# Altium footprint library SMD QFN.PcbLib: 9 footprints
Each footprint in its own frame and in the unit in brackets; x right, y up, seen from the top. Pads: shape width x height; smd on the part's side, far side on the other; paste and mask are expansions set on the pad; w line width, h text height; cw(c..) or ccw(c..) is an arc to the next point about the centre after c.
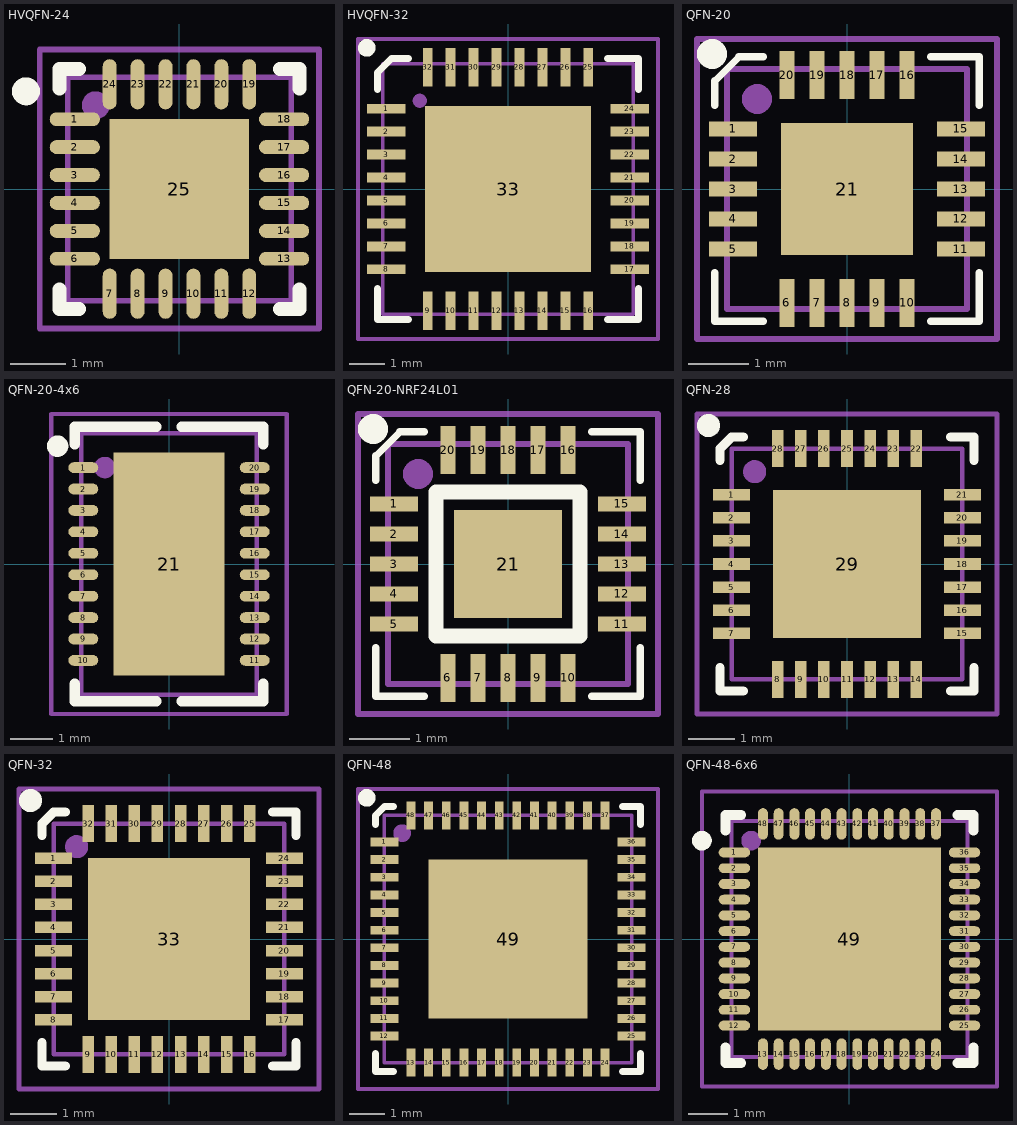
[diagram p0: the footprints below, top view; thin cyan lines are the x and y axes]

## HVQFN-24 [mm] "HVQFN, 24-Leads, Body 4,00x4,00mm, Pitch 0,50mm, Thermal Pad 2,50x2,50mm, IPC Medium Density"
height 1
pads (25):
  oval 0.9x0.25 smd: 1(-1.875,1.25) 2(-1.875,0.75) 3(-1.875,0.25) 4(-1.875,-0.25) 5(-1.875,-0.75) 6(-1.875,-1.25) 13(1.875,-1.25) 14(1.875,-0.75) 15(1.875,-0.25) 16(1.875,0.25) 17(1.875,0.75) 18(1.875,1.25)
  oval 0.25x0.9 smd: 7(-1.25,-1.875) 8(-0.75,-1.875) 9(-0.25,-1.875) 10(0.25,-1.875) 11(0.75,-1.875) 12(1.25,-1.875) 19(1.25,1.875) 20(0.75,1.875) 21(0.25,1.875) 22(-0.25,1.875) 23(-0.75,1.875) 24(-1.25,1.875)
  rect 2.5x2.5 smd: 25(0,0)
Top Overlay:
  circle w0.25: c-2.75,1.75 r0.125
  lines w0.25: -2.15,-1.8 -2.15,-2.15 -1.8,-2.15 ; -2.15,1.8 -2.15,2.15 -1.8,2.15 ; 1.8,-2.15 2.15,-2.15 2.15,-1.8 ; 1.8,2.15 2.15,2.15 2.15,1.8
Mechanical 13:
  circle w0.25: c-1.5,1.5 r0.125
  lines w0.1: -2,-2 2,-2 2,2 -2,2 -2,-2
Mechanical 15:
  lines w0.1: -0.5,0 0.5,0 ; 0,-0.5 0,0.5 ; -2.5,-2.5 2.5,-2.5 2.5,2.5 -2.5,2.5 -2.5,-2.5
3D body "HVQFN-24.step": height 1, standoff 0, extent -2.05,-2.05 2.05,2.05

## HVQFN-32 [mm] "Plastic Thermal Enhanced Very Thin Quad Flat Package; No Leads; 32 Terminals; Body 7 x 7 x 0.85 mm"
height 0.85
pads (33):
  rect 1.1x0.28 smd: 1(-3.45,2.275) 2(-3.45,1.625) 3(-3.45,0.975) 4(-3.45,0.325) 5(-3.45,-0.325) 6(-3.45,-0.975) 7(-3.45,-1.625) 8(-3.45,-2.275) 17(3.45,-2.275) 18(3.45,-1.625) 19(3.45,-0.975) 20(3.45,-0.325) 21(3.45,0.325) 22(3.45,0.975) 23(3.45,1.625) 24(3.45,2.275)
  rect 0.28x1.1 smd: 9(-2.275,-3.45) 10(-1.625,-3.45) 11(-0.975,-3.45) 12(-0.325,-3.45) 13(0.325,-3.45) 14(0.975,-3.45) 15(1.625,-3.45) 16(2.275,-3.45) 25(2.275,3.45) 26(1.625,3.45) 27(0.975,3.45) 28(0.325,3.45) 29(-0.325,3.45) 30(-0.975,3.45) 31(-1.625,3.45) 32(-2.275,3.45)
  rect 4.7x4.7 smd paste-2.35: 33(0,0)
Top Overlay:
  circle w0.25: c-4,4 r0.125
  lines w0.2: -3.7,-2.815 -3.7,-3.7 -2.815,-3.7 ; -3.7,2.815 -3.7,3.3 -3.3,3.7 -2.815,3.7 ; 2.815,-3.7 3.7,-3.7 3.7,-2.815 ; 2.815,3.7 3.7,3.7 3.7,2.815
Top Paste:
  rectangle: 0.65,-1.35 1.35,-0.65
  rectangle: -1.35,-1.35 -0.65,-0.65
  rectangle: -0.35,-1.35 0.35,-0.65
  rectangle: 0.65,-0.35 1.35,0.35
  rectangle: 0.65,0.65 1.35,1.35
  region: -0.65,1.35 -1.35,1.35 -1.35,0.65 -0.65,0.65
  rectangle: -0.35,0.65 0.35,1.35
  rectangle: -0.35,-0.35 0.35,0.35
  region: -0.65,0.35 -1.35,0.35 -1.35,-0.35 -0.65,-0.35
Mechanical 7:
  lines w0.05: -4.25,-4.25 4.25,-4.25 4.25,4.25 -4.25,4.25 -4.25,-4.25
  text ".Designator" at -2.5,-0.25 h1.5
Mechanical 13:
  circle w0.2: c-2.5,2.5 r0.1
  lines w0.1: -3.55,-3.55 3.55,-3.55 3.55,3.55 -3.55,3.55 -3.55,-3.55
Mechanical 15:
  lines w0.1: -0.5,0 0.5,0 ; 0,-0.5 0,0.5 ; -4.25,-4.25 4.25,-4.25 4.25,4.25 -4.25,4.25 -4.25,-4.25
3D body: height 1, standoff 0, extent -3.55,-3.55 3.55,3.55

## QFN-20 [mm]
pads (21):
  rect 0.8x0.25 smd: 1(-1.9,1) 2(-1.9,0.5) 3(-1.9,0) 4(-1.9,-0.5) 5(-1.9,-1) 11(1.9,-1) 12(1.9,-0.5) 13(1.9,0) 14(1.9,0.5) 15(1.9,1)
  rect 0.25x0.8 smd: 6(-1,-1.9) 7(-0.5,-1.9) 8(0,-1.9) 9(0.5,-1.9) 10(1,-1.9) 16(1,1.9) 17(0.5,1.9) 18(0,1.9) 19(-0.5,1.9) 20(-1,1.9)
  rect 2.2x2.2 smd: 21(0,0)
Top Overlay:
  circle w0.25: c-2.25,2.25 r0.125
  lines w0.125: -2.2,-1.4 -2.2,-2.2 -1.4,-2.2 ; -2.2,1.4 -2.2,1.8 -1.8,2.2 -1.4,2.2 ; 1.4,-2.2 2.2,-2.2 2.2,-1.4 ; 1.4,2.2 2.2,2.2 2.2,1.4
Mechanical 7:
  lines w0.05: -2.5,-2.5 -2.5,2.5 2.5,2.5 2.5,-2.5 -2.5,-2.5
  text ".Designator" at -1.75,-0.25 h1.2
Mechanical 13:
  circle w0.25: c-1.5,1.5 r0.125
  lines w0.1: -2,-2 -2,2 2,2 2,-2 -2,-2
Mechanical 15:
  lines w0.1: -0.5,0 0.5,0 ; 0,-0.5 0,0.5 ; -2.5,-2.5 -2.5,2.5 2.5,2.5 2.5,-2.5 -2.5,-2.5
3D body "User Library-QFN20_4x4x0_8.step": height 0.78, standoff -0.02, extent -2.01,-2.01 2.01,2.01

## QFN-20-4x6 [mm] "QFN, 20-Leads, Body 4,00x6,00mm, Pitch 0,50mm, Thermal Pad 2,60x5,20mm, IPC Medium Density"
height 1
pads (21):
  oval 0.7x0.25 smd: 1(-2,2.25) 2(-2,1.75) 3(-2,1.25) 4(-2,0.75) 5(-2,0.25) 6(-2,-0.25) 7(-2,-0.75) 8(-2,-1.25) 9(-2,-1.75) 10(-2,-2.25) 11(2,-2.25) 12(2,-1.75) 13(2,-1.25) 14(2,-0.75) 15(2,-0.25) 16(2,0.25) 17(2,0.75) 18(2,1.25) 19(2,1.75) 20(2,2.25)
  rect 2.6x5.2 smd: 21(0,0)
Top Overlay:
  circle w0.25: c-2.6,2.75 r0.125
  lines w0.25: -2.2,-2.8 -2.2,-3.2 -0.3,-3.2 ; -2.2,2.8 -2.2,3.2 -0.3,3.2 ; 0.3,-3.2 2.2,-3.2 2.2,-2.8 ; 0.3,3.2 2.2,3.2 2.2,2.8
Mechanical 7:
  lines w0.05: -2.75,-3.5 2.75,-3.5 2.75,3.5 -2.75,3.5 -2.75,-3.5
  text ".Designator" at -1.75,-0.25 h1.2
Mechanical 13:
  circle w0.25: c-1.5,2.25 r0.125
  lines w0.1: -2.05,-3.05 2.05,-3.05 2.05,3.05 -2.05,3.05 -2.05,-3.05
Mechanical 15:
  lines w0.1: -0.5,0 0.5,0 ; 0,-0.5 0,0.5 ; -2.75,-3.5 2.75,-3.5 2.75,3.5 -2.75,3.5 -2.75,-3.5
3D body "QFN-20-4x6.step": height 1, standoff 0, extent -2.1,-3.05 2.1,3.05

## QFN-20-NRF24L01 [mm] "nrf24L01 \ nrf24L01+"
height 1
pads (21):
  rect 0.8x0.25 smd: 1(-1.9,1) 2(-1.9,0.5) 3(-1.9,0) 4(-1.9,-0.5) 5(-1.9,-1) 11(1.9,-1) 12(1.9,-0.5) 13(1.9,0) 14(1.9,0.5) 15(1.9,1)
  rect 0.25x0.8 smd: 6(-1,-1.9) 7(-0.5,-1.9) 8(0,-1.9) 9(0.5,-1.9) 10(1,-1.9) 16(1,1.9) 17(0.5,1.9) 18(0,1.9) 19(-0.5,1.9) 20(-1,1.9)
  rect 1.8x1.8 smd: 21(0,0)
Top Overlay:
  circle w0.25: c-2.25,2.25 r0.125
  lines w0.125: -2.2,-1.4 -2.2,-2.2 -1.4,-2.2 ; -2.2,1.4 -2.2,1.8 -1.8,2.2 -1.4,2.2 ; 1.4,-2.2 2.2,-2.2 2.2,-1.4 ; 1.4,2.2 2.2,2.2 2.2,1.4
  lines w0.25: -1.2,-1.2 -1.2,1.2 1.2,1.2 1.2,-1.2 -1.2,-1.2
Mechanical 7:
  lines w0.05: -2.5,-2.5 -2.5,2.5 2.5,2.5 2.5,-2.5 -2.5,-2.5
  text ".Designator" at -1.75,-0.25 h1.2
Mechanical 13:
  circle w0.25: c-1.5,1.5 r0.125
  lines w0.1: -2,-2 -2,2 2,2 2,-2 -2,-2
Mechanical 15:
  lines w0.1: -0.5,0 0.5,0 ; 0,-0.5 0,0.5 ; -2.5,-2.5 -2.5,2.5 2.5,2.5 2.5,-2.5 -2.5,-2.5
3D body "User Library-NRF24L01P.step": height 1.48, standoff 0, extent -2.02,-2.01 2,2.01

## QFN-28 [mm]
height 0.9
pads (29):
  rect 0.8x0.25 smd: 1(-2.5,1.5) 2(-2.5,1) 3(-2.5,0.5) 4(-2.5,0) 5(-2.5,-0.5) 6(-2.5,-1) 7(-2.5,-1.5) 15(2.5,-1.5) 16(2.5,-1) 17(2.5,-0.5) 18(2.5,0) 19(2.5,0.5) 20(2.5,1) 21(2.5,1.5)
  rect 0.25x0.8 smd: 8(-1.5,-2.5) 9(-1,-2.5) 10(-0.5,-2.5) 11(0,-2.5) 12(0.5,-2.5) 13(1,-2.5) 14(1.5,-2.5) 22(1.5,2.5) 23(1,2.5) 24(0.5,2.5) 25(0,2.5) 26(-0.5,2.5) 27(-1,2.5) 28(-1.5,2.5)
  rect 3.2x3.2 smd: 29(0,0)
Top Overlay:
  circle w0.25: c-3,3 r0.125
  lines w0.2: -2.75,-2.25 -2.75,-2.75 -2.25,-2.75 ; -2.75,2.25 -2.75,2.5 -2.5,2.75 ; -2.5,2.75 -2.25,2.75 ; 2.25,-2.75 2.75,-2.75 2.75,-2.25 ; 2.25,2.75 2.75,2.75 2.75,2.25
Mechanical 7:
  lines w0.05: -3.25,-3.25 3.25,-3.25 3.25,3.25 -3.25,3.25 -3.25,-3.25
  text ".Designator" at -1.75,-0.25 h1.2
Mechanical 13:
  circle w0.25: c-2,2 r0.125
  lines w0.1: -2.5,-2.5 2.5,-2.5 2.5,2.5 -2.5,2.5 -2.5,-2.5
Mechanical 15:
  lines w0.1: -0.5,0 0.5,0 ; 0,-0.5 0,0.5 ; -3.25,-3.25 -3.25,3.25 3.25,3.25 3.25,-3.25 -3.25,-3.25
3D body: height 0.9, standoff 0.01, extent -2.5,-2.5 2.5,2.5

## QFN-32 [mm]
height 0.75
pads (33):
  rect 0.8x0.25 smd: 1(-2.5,1.75) 2(-2.5,1.25) 3(-2.5,0.75) 4(-2.5,0.25) 5(-2.5,-0.25) 6(-2.5,-0.75) 7(-2.5,-1.25) 8(-2.5,-1.75) 17(2.5,-1.75) 18(2.5,-1.25) 19(2.5,-0.75) 20(2.5,-0.25) 21(2.5,0.25) 22(2.5,0.75) 23(2.5,1.25) 24(2.5,1.75)
  rect 0.25x0.8 smd: 9(-1.75,-2.5) 10(-1.25,-2.5) 11(-0.75,-2.5) 12(-0.25,-2.5) 13(0.25,-2.5) 14(0.75,-2.5) 15(1.25,-2.5) 16(1.75,-2.5) 25(1.75,2.5) 26(1.25,2.5) 27(0.75,2.5) 28(0.25,2.5) 29(-0.25,2.5) 30(-0.75,2.5) 31(-1.25,2.5) 32(-1.75,2.5)
  rect 3.5x3.5 smd: 33(0,0)
Top Overlay:
  circle w0.25: c-3,3 r0.125
  lines w0.2: -2.75,-2.25 -2.75,-2.75 -2.25,-2.75 ; -2.75,2.25 -2.75,2.5 -2.5,2.75 ; -2.5,2.75 -2.25,2.75 ; 2.25,-2.75 2.75,-2.75 2.75,-2.25 ; 2.25,2.75 2.75,2.75 2.75,2.25
Mechanical 7:
  lines w0.05: -3.25,-3.25 3.25,-3.25 3.25,3.25 -3.25,3.25 -3.25,-3.25
  text ".Designator" at -1.75,-0.25 h1.2
Mechanical 13:
  circle w0.25: c-2,2 r0.125
  lines w0.1: -2.5,-2.5 -2.5,2.5 2.5,2.5 2.5,-2.5 -2.5,-2.5
Mechanical 15:
  lines w0.1: -0.5,0 0.5,0 ; 0,-0.5 0,0.5 ; -3.25,-3.25 3.25,-3.25 3.25,3.25 -3.25,3.25 -3.25,-3.25
3D body "User Library-qfn32-5x5.step": height 0.82, standoff 0.02, extent -2.51,-2.51 2.51,2.51

## QFN-48 [mm]
height 0.85
pads (49):
  rect 0.8x0.25 smd mask+0.08: 1(-3.5,2.75) 2(-3.5,2.25) 3(-3.5,1.75) 4(-3.5,1.25) 5(-3.5,0.75) 6(-3.5,0.25) 7(-3.5,-0.25) 8(-3.5,-0.75) 9(-3.5,-1.25) 10(-3.5,-1.75) 11(-3.5,-2.25) 12(-3.5,-2.75) 25(3.5,-2.75) 26(3.5,-2.25) 27(3.5,-1.75) 28(3.5,-1.25) 29(3.5,-0.75) 30(3.5,-0.25) 31(3.5,0.25) 32(3.5,0.75) 33(3.5,1.25) 34(3.5,1.75) 35(3.5,2.25) 36(3.5,2.75)
  rect 0.25x0.8 smd mask+0.08: 13(-2.75,-3.5) 14(-2.25,-3.5) 15(-1.75,-3.5) 16(-1.25,-3.5) 17(-0.75,-3.5) 18(-0.25,-3.5) 19(0.25,-3.5) 20(0.75,-3.5) 21(1.25,-3.5) 22(1.75,-3.5) 23(2.25,-3.5) 24(2.75,-3.5) 37(2.75,3.5) 38(2.25,3.5) 39(1.75,3.5) 40(1.25,3.5) 41(0.75,3.5) 42(0.25,3.5) 43(-0.25,3.5) 44(-0.75,3.5) 45(-1.25,3.5) 46(-1.75,3.5) 47(-2.25,3.5) 48(-2.75,3.5)
  rect 4.5x4.5 smd: 49(0,0)
Top Overlay:
  circle w0.25: c-4,4 r0.125
  lines w0.2: -3.75,-3.25 -3.75,-3.75 -3.25,-3.75 ; -3.75,3.25 -3.75,3.5 -3.5,3.75 -3.25,3.75 ; 3.25,-3.75 3.75,-3.75 3.75,-3.25 ; 3.25,3.75 3.75,3.75 3.75,3.25
Mechanical 7:
  lines w0.05: -4.25,-4.25 -4.25,4.25 4.25,4.25 4.25,-4.25 -4.25,-4.25
  text ".Designator" at -1.75,-0.25 h1.2
Mechanical 13:
  circle w0.25: c-3,3 r0.125
  lines w0.1: -3.5,-3.5 3.5,-3.5 3.5,3.5 -3.5,3.5 -3.5,-3.5
Mechanical 15:
  lines w0.1: -0.5,0 0.5,0 ; 0,-0.5 0,0.5 ; -4.25,-4.25 -4.25,4.25 4.25,4.25 4.25,-4.25 -4.25,-4.25
3D body "User Library-QFN48_7x7.step": height 0.8, standoff 0, extent -3.51,-3.51 3.51,3.51

## QFN-48-6x6 [mm] "QFN, 48-Leads, Body 6,00x6,00mm, Pitch 0,40mm, Thermal Pad 4,65x4,65mm, IPC Medium Density"
height 1
pads (49):
  oval 0.8x0.25 smd mask+0.08: 1(-2.925,2.2) 2(-2.925,1.8) 3(-2.925,1.4) 4(-2.925,1) 5(-2.925,0.6) 6(-2.925,0.2) 7(-2.925,-0.2) 8(-2.925,-0.6) 9(-2.925,-1) 10(-2.925,-1.4) 11(-2.925,-1.8) 12(-2.925,-2.2) 25(2.925,-2.2) 26(2.925,-1.8) 27(2.925,-1.4) 28(2.925,-1) 29(2.925,-0.6) 30(2.925,-0.2) 31(2.925,0.2) 32(2.925,0.6) 33(2.925,1) 34(2.925,1.4) 35(2.925,1.8) 36(2.925,2.2)
  oval 0.25x0.8 smd mask+0.08: 13(-2.2,-2.925) 14(-1.8,-2.925) 15(-1.4,-2.925) 16(-1,-2.925) 17(-0.6,-2.925) 18(-0.2,-2.925) 19(0.2,-2.925) 20(0.6,-2.925) 21(1,-2.925) 22(1.4,-2.925) 23(1.8,-2.925) 24(2.2,-2.925) 37(2.2,2.925) 38(1.8,2.925) 39(1.4,2.925) 40(1,2.925) 41(0.6,2.925) 42(0.2,2.925) 43(-0.2,2.925) 44(-0.6,2.925) 45(-1,2.925) 46(-1.4,2.925) 47(-1.8,2.925) 48(-2.2,2.925)
  rect 4.65x4.65 smd mask+0.05: 49(0,0)
Top Overlay:
  circle w0.25: c-3.75,2.5 r0.125
  lines w0.25: -3.15,-2.75 -3.15,-3.15 -2.75,-3.15 ; -3.15,2.75 -3.15,3.15 -2.75,3.15 ; 2.75,-3.15 3.15,-3.15 3.15,-2.75 ; 2.75,3.15 3.15,3.15 3.15,2.75
Mechanical 7:
  lines w0.05: -3.75,-3.75 3.75,-3.75 3.75,3.75 -3.75,3.75 -3.75,-3.75
  text ".Designator" at -1.75,-0.25 h1.2
Mechanical 13:
  circle w0.25: c-2.5,2.5 r0.125
  lines w0.1: -3,-3 3,-3 3,3 -3,3 -3,-3
Mechanical 15:
  lines w0.1: -0.5,0 0.5,0 ; 0,-0.5 0,0.5 ; -3.75,-3.75 3.75,-3.75 3.75,3.75 -3.75,3.75 -3.75,-3.75
3D body "QFN-48-6x6.step": height 1, standoff 0, extent -3.05,-3.05 3.05,3.05